# Altium schematic symbol library SQJA70EP-T1_GE3.SchLib: 1 symbol
Pins are listed as number, name and electrical type; pins without a type are passive.

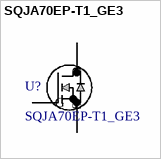
[diagram p0: symbol SQJA70EP-T1_GE3]

## SQJA70EP-T1_GE3
designator U?
N-CHANNEL 100-V (D-S) 175C MOSFET; Manufacturer_Name: Vishay; Copyright: Copyright (C) 2026 Ultra Librarian. All rights reserved.; Manufacturer_Part_Number: SQJA70EP-T1_GE3
footprint SOT_6EP-T1_GE3_VIS
pins: 2 S, 4 G, 5 D